# Altium schematic symbol library MCU_ST_STM32H5.SchLib: 73 symbols (part 3 of 3)
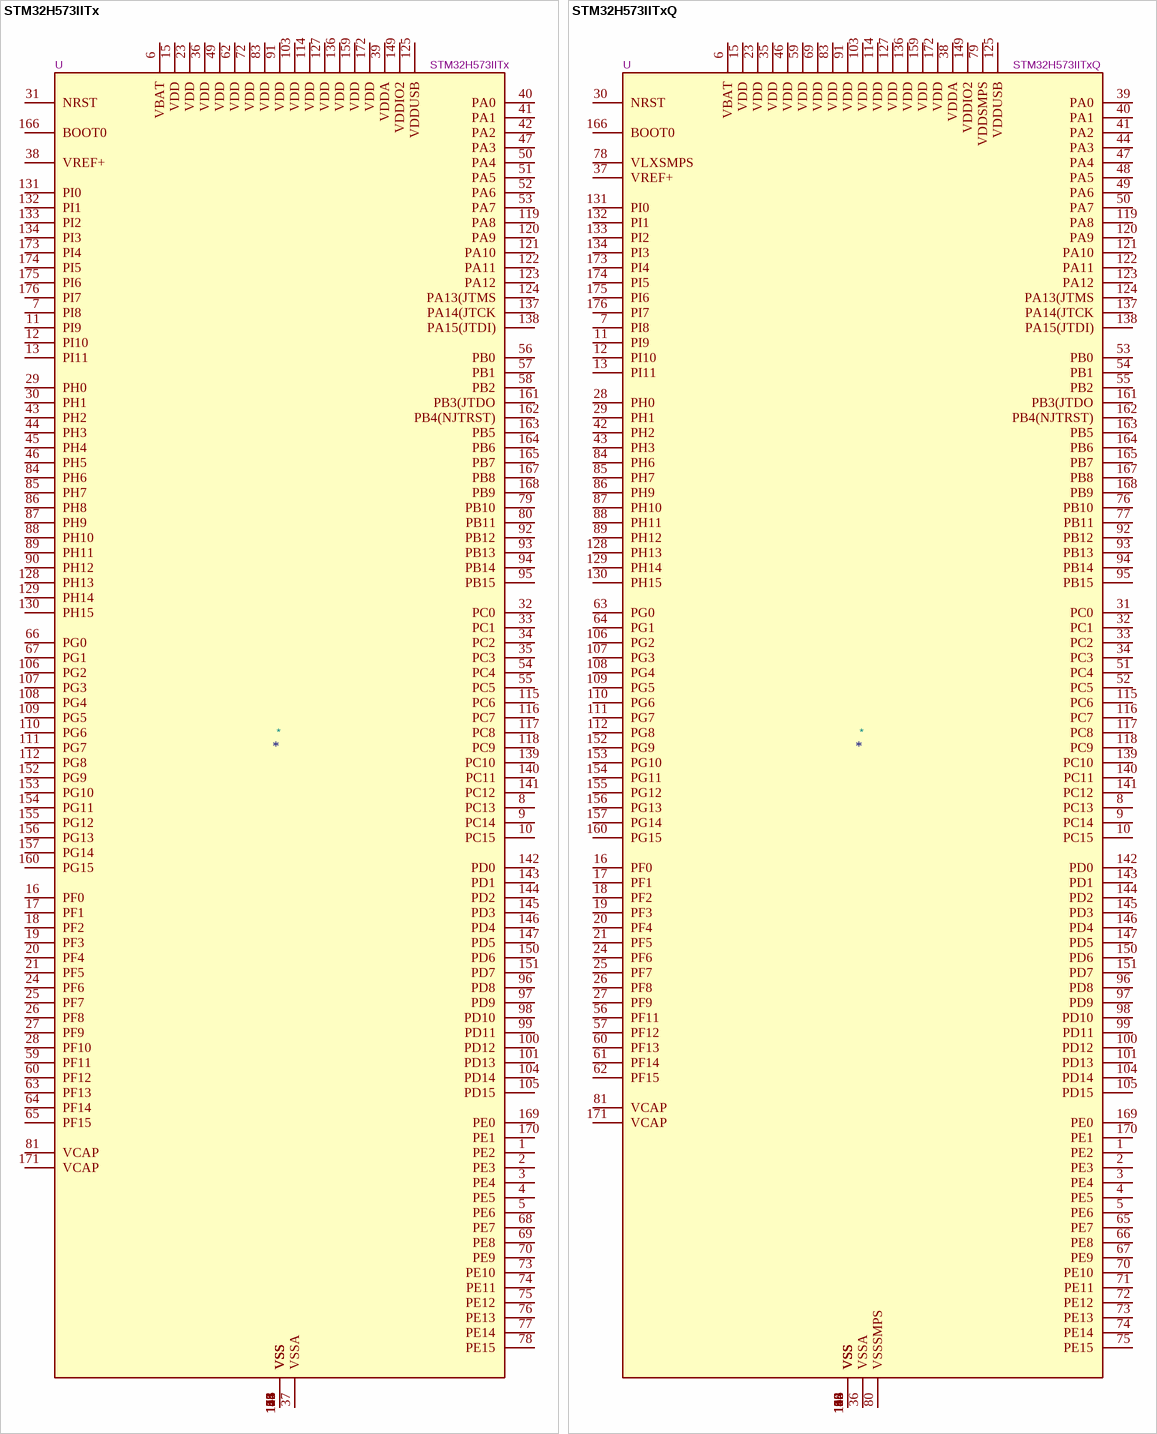
[diagram p23: symbols STM32H573IITx to STM32H573IITxQ]

## STM32H573IITx
designator *  value STM32H573IITx  Reference: U
STMicroelectronics Arm Cortex-M33 MCU, 2048KB flash, 640KB RAM, 250 MHz, 1.62-3.6V, 140 GPIO, LQFP176; ki_keywords: Arm Cortex-M33 STM32H5 STM32H563/H573; ki_fp_filters: LQFP*24x24mm*P0.5mm*; Footprint: Package_QFP:LQFP-176_24x24mm_P0.5mm; Datasheet: https://www.st.com/resource/en/datasheet/stm32h573ii.pdf; Description_: STMicroelectronics Arm Cortex-M33 MCU, 2048KB flash, 640KB RAM, 250 MHz, 1.62-3.6V, 140 GPIO, LQFP176
pins: 1 PE2, 2 PE3, 3 PE4, 4 PE5, 5 PE6, 6 VBAT, 7 PI8, 8 PC13, 9 PC14, 10 PC15, 11 PI9, 12 PI10, 13 PI11, 14 VSS, 15 VDD, 16 PF0, 17 PF1, 18 PF2, 19 PF3, 20 PF4, 21 PF5, 22 VSS, 23 VDD, 24 PF6, 25 PF7, 26 PF8, 27 PF9, 28 PF10, 29 PH0, 30 PH1, 31 NRST, 32 PC0, 33 PC1, 34 PC2, 35 PC3, 36 VDD, 37 VSSA, 38 VREF+, 39 VDDA, 40 PA0, 41 PA1, 42 PA2, 43 PH2, 44 PH3, 45 PH4, 46 PH5, 47 PA3, 48 VSS, 49 VDD, 50 PA4, 51 PA5, 52 PA6, 53 PA7, 54 PC4, 55 PC5, 56 PB0, 57 PB1, 58 PB2, 59 PF11, 60 PF12, 61 VSS, 62 VDD, 63 PF13, 64 PF14, 65 PF15, 66 PG0, 67 PG1, 68 PE7, 69 PE8, 70 PE9, 71 VSS, 72 VDD, 73 PE10, 74 PE11, 75 PE12, 76 PE13, 77 PE14, 78 PE15, 79 PB10, 80 PB11, 81 VCAP, 82 VSS, 83 VDD, 84 PH6, 85 PH7, 86 PH8, 87 PH9, 88 PH10, 89 PH11, 90 PH12, 91 VDD, 92 PB12, 93 PB13, 94 PB14, 95 PB15, 96 PD8, 97 PD9, 98 PD10, 99 PD11, 100 PD12, 101 PD13, 102 VSS, 103 VDD, 104 PD14, 105 PD15, 106 PG2, 107 PG3, 108 PG4, 109 PG5, 110 PG6, 111 PG7, 112 PG8, 113 VSS, 114 VDD, 115 PC6, 116 PC7, 117 PC8, 118 PC9, 119 PA8, 120 PA9, 121 PA10, 122 PA11, 123 PA12, 124 PA13(JTMS, 125 VDDUSB, 126 VSS, 127 VDD, 128 PH13, 129 PH14, 130 PH15, 131 PI0, 132 PI1, 133 PI2, 134 PI3, 135 VSS, 136 VDD, 137 PA14(JTCK, 138 PA15(JTDI), 139 PC10, 140 PC11, 141 PC12, 142 PD0, 143 PD1, 144 PD2, 145 PD3, 146 PD4, 147 PD5, 148 VSS, 149 VDDIO2, 150 PD6, 151 PD7, 152 PG9, 153 PG10, 154 PG11, 155 PG12, 156 PG13, 157 PG14, 158 VSS, 159 VDD, 160 PG15, 161 PB3(JTDO, 162 PB4(NJTRST), 163 PB5, 164 PB6, 165 PB7, 166 BOOT0, 167 PB8, 168 PB9, 169 PE0, 170 PE1, 171 VCAP, 172 VDD, 173 PI4, 174 PI5, 175 PI6, 176 PI7

## STM32H573IITxQ
designator *  value STM32H573IITxQ  Reference: U
STMicroelectronics Arm Cortex-M33 MCU, 2048KB flash, 640KB RAM, 250 MHz, 1.62-3.6V, 136 GPIO, LQFP176; ki_keywords: Arm Cortex-M33 STM32H5 STM32H563/H573; ki_fp_filters: LQFP*24x24mm*P0.5mm*; Footprint: Package_QFP:LQFP-176_24x24mm_P0.5mm; Datasheet: https://www.st.com/resource/en/datasheet/stm32h573ii.pdf; Description_: STMicroelectronics Arm Cortex-M33 MCU, 2048KB flash, 640KB RAM, 250 MHz, 1.62-3.6V, 136 GPIO, LQFP176
pins: 1 PE2, 2 PE3, 3 PE4, 4 PE5, 5 PE6, 6 VBAT, 7 PI8, 8 PC13, 9 PC14, 10 PC15, 11 PI9, 12 PI10, 13 PI11, 14 VSS, 15 VDD, 16 PF0, 17 PF1, 18 PF2, 19 PF3, 20 PF4, 21 PF5, 22 VSS, 23 VDD, 24 PF6, 25 PF7, 26 PF8, 27 PF9, 28 PH0, 29 PH1, 30 NRST, 31 PC0, 32 PC1, 33 PC2, 34 PC3, 35 VDD, 36 VSSA, 37 VREF+, 38 VDDA, 39 PA0, 40 PA1, 41 PA2, 42 PH2, 43 PH3, 44 PA3, 45 VSS, 46 VDD, 47 PA4, 48 PA5, 49 PA6, 50 PA7, 51 PC4, 52 PC5, 53 PB0, 54 PB1, 55 PB2, 56 PF11, 57 PF12, 58 VSS, 59 VDD, 60 PF13, 61 PF14, 62 PF15, 63 PG0, 64 PG1, 65 PE7, 66 PE8, 67 PE9, 68 VSS, 69 VDD, 70 PE10, 71 PE11, 72 PE12, 73 PE13, 74 PE14, 75 PE15, 76 PB10, 77 PB11, 78 VLXSMPS, 79 VDDSMPS, 80 VSSSMPS, 81 VCAP, 82 VSS, 83 VDD, 84 PH6, 85 PH7, 86 PH9, 87 PH10, 88 PH11, 89 PH12, 90 VSS, 91 VDD, 92 PB12, 93 PB13, 94 PB14, 95 PB15, 96 PD8, 97 PD9, 98 PD10, 99 PD11, 100 PD12, 101 PD13, 102 VSS, 103 VDD, 104 PD14, 105 PD15, 106 PG2, 107 PG3, 108 PG4, 109 PG5, 110 PG6, 111 PG7, 112 PG8, 113 VSS, 114 VDD, 115 PC6, 116 PC7, 117 PC8, 118 PC9, 119 PA8, 120 PA9, 121 PA10, 122 PA11, 123 PA12, 124 PA13(JTMS, 125 VDDUSB, 126 VSS, 127 VDD, 128 PH13, 129 PH14, 130 PH15, 131 PI0, 132 PI1, 133 PI2, 134 PI3, 135 VSS, 136 VDD, 137 PA14(JTCK, 138 PA15(JTDI), 139 PC10, 140 PC11, 141 PC12, 142 PD0, 143 PD1, 144 PD2, 145 PD3, 146 PD4, 147 PD5, 148 VSS, 149 VDDIO2, 150 PD6, 151 PD7, 152 PG9, 153 PG10, 154 PG11, 155 PG12, 156 PG13, 157 PG14, 158 VSS, 159 VDD, 160 PG15, 161 PB3(JTDO, 162 PB4(NJTRST), 163 PB5, 164 PB6, 165 PB7, 166 BOOT0, 167 PB8, 168 PB9, 169 PE0, 170 PE1, 171 VCAP, 172 VDD, 173 PI4, 174 PI5, 175 PI6, 176 PI7

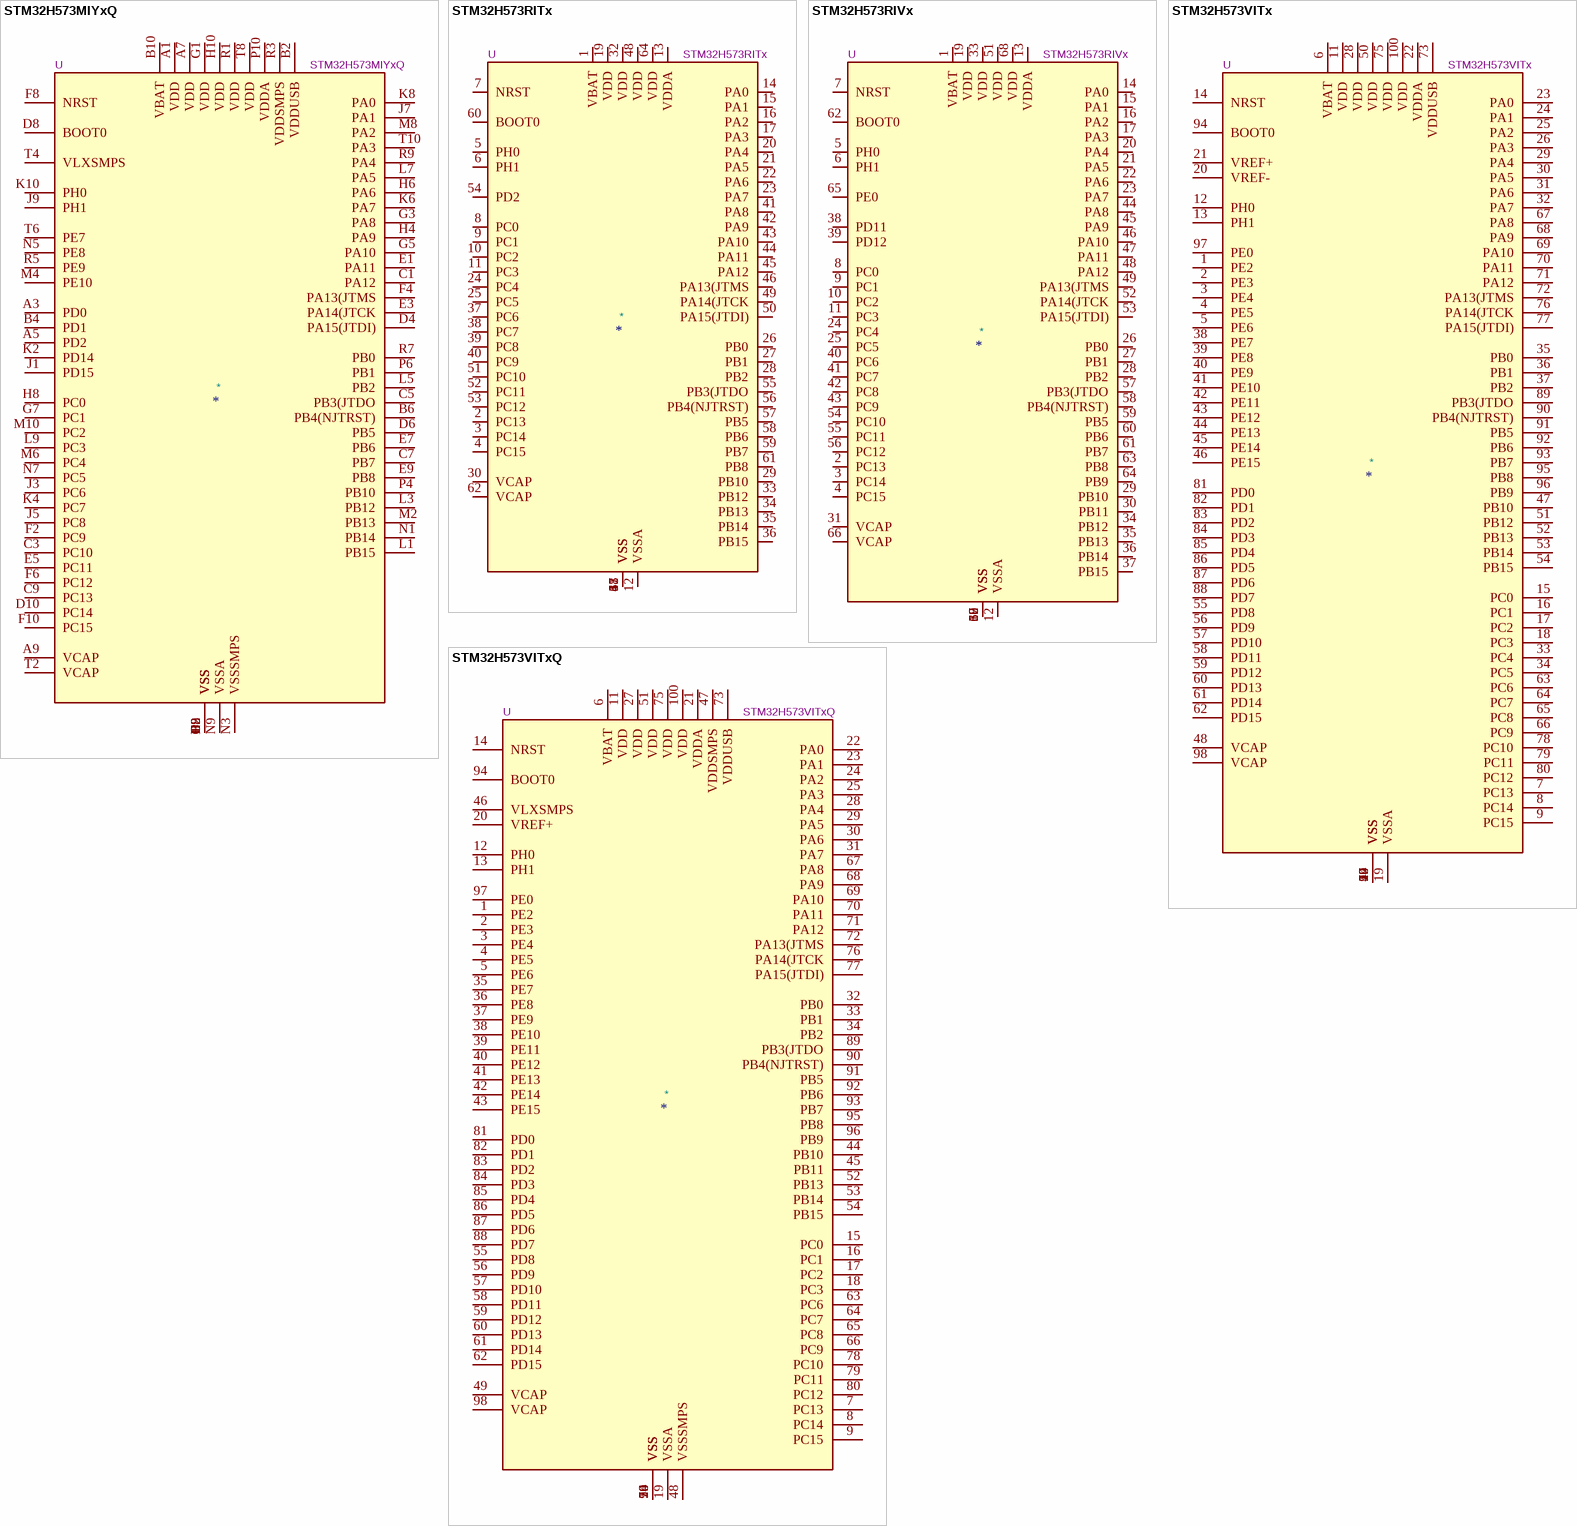
[diagram p20: symbols STM32H573MIYxQ to STM32H573VITxQ]

## STM32H573MIYxQ
designator *  value STM32H573MIYxQ  Reference: U
STMicroelectronics Arm Cortex-M33 MCU, 2048KB flash, 640KB RAM, 250 MHz, 1.62-3.6V, 57 GPIO, WLCSP80; ki_keywords: Arm Cortex-M33 STM32H5 STM32H563/H573; ki_fp_filters: ST*WLCSP*3.5x3.27mm*Layout10x16*P0.35mm*Stagger*Offcenter*; Footprint: Package_CSP:ST_WLCSP-80_3.5x3.27mm_Layout10x16_P0.35mm_Stagger_Offcenter; Datasheet: https://www.st.com/resource/en/datasheet/stm32h573mi.pdf; Description_: STMicroelectronics Arm Cortex-M33 MCU, 2048KB flash, 640KB RAM, 250 MHz, 1.62-3.6V, 57 GPIO, WLCSP80
pins: A1 VDD, A3 PD0, A5 PD2, A7 VDD, A9 VCAP, B2 VDDUSB, B4 PD1, B6 PB4(NJTRST), B8 VSS, B10 VBAT, C1 PA12, C3 PC10, C5 PB3(JTDO, C7 PB7, C9 PC13, D2 VSS, D4 PA15(JTDI), D6 PB5, D8 BOOT0, D10 PC14, E1 PA11, E3 PA14(JTCK, E5 PC11, E7 PB6, E9 PB8, F2 PC9, F4 PA13(JTMS, F6 PC12, F8 NRST, F10 PC15, G1 VDD, G3 PA8, G5 PA10, G7 PC1, G9 VSS, H2 VSS, H4 PA9, H6 PA6, H8 PC0, H10 VDD, J1 PD15, J3 PC6, J5 PC8, J7 PA1, J9 PH1, K2 PD14, K4 PC7, K6 PA7, K8 PA0, K10 PH0, L1 PB15, L3 PB12, L5 PB2, L7 PA5, L9 PC3, M2 PB13, M4 PE10, M6 PC4, M8 PA2, M10 PC2, N1 PB14, N3 VSSSMPS, N5 PE8, N7 PC5, N9 VSSA, P2 VSS, P4 PB10, P6 PB1, P8 VSS, P10 VDDA, R1 VDD, R3 VDDSMPS, R5 PE9, R7 PB0, R9 PA4, T2 VCAP, T4 VLXSMPS, T6 PE7, T8 VDD, T10 PA3

## STM32H573RITx
designator *  value STM32H573RITx  Reference: U
STMicroelectronics Arm Cortex-M33 MCU, 2048KB flash, 640KB RAM, 250 MHz, 1.62-3.6V, 49 GPIO, LQFP64; ki_keywords: Arm Cortex-M33 STM32H5 STM32H563/H573; ki_fp_filters: LQFP*10x10mm*P0.5mm*; Footprint: Package_QFP:LQFP-64_10x10mm_P0.5mm; Datasheet: https://www.st.com/resource/en/datasheet/stm32h573ri.pdf; Description_: STMicroelectronics Arm Cortex-M33 MCU, 2048KB flash, 640KB RAM, 250 MHz, 1.62-3.6V, 49 GPIO, LQFP64
pins: 1 VBAT, 2 PC13, 3 PC14, 4 PC15, 5 PH0, 6 PH1, 7 NRST, 8 PC0, 9 PC1, 10 PC2, 11 PC3, 12 VSSA, 13 VDDA, 14 PA0, 15 PA1, 16 PA2, 17 PA3, 18 VSS, 19 VDD, 20 PA4, 21 PA5, 22 PA6, 23 PA7, 24 PC4, 25 PC5, 26 PB0, 27 PB1, 28 PB2, 29 PB10, 30 VCAP, 31 VSS, 32 VDD, 33 PB12, 34 PB13, 35 PB14, 36 PB15, 37 PC6, 38 PC7, 39 PC8, 40 PC9, 41 PA8, 42 PA9, 43 PA10, 44 PA11, 45 PA12, 46 PA13(JTMS, 47 VSS, 48 VDD, 49 PA14(JTCK, 50 PA15(JTDI), 51 PC10, 52 PC11, 53 PC12, 54 PD2, 55 PB3(JTDO, 56 PB4(NJTRST), 57 PB5, 58 PB6, 59 PB7, 60 BOOT0, 61 PB8, 62 VCAP, 63 VSS, 64 VDD

## STM32H573RIVx
designator *  value STM32H573RIVx  Reference: U
STMicroelectronics Arm Cortex-M33 MCU, 2048KB flash, 640KB RAM, 250 MHz, 1.62-3.6V, 53 GPIO, VFQFPN68; ki_keywords: Arm Cortex-M33 STM32H5 STM32H563/H573; ki_fp_filters: QFN*1EP*8x8mm*P0.4mm*; Footprint: Package_DFN_QFN:QFN-68-1EP_8x8mm_P0.4mm_EP6.4x6.4mm; Datasheet: https://www.st.com/resource/en/datasheet/stm32h573ri.pdf; Description_: STMicroelectronics Arm Cortex-M33 MCU, 2048KB flash, 640KB RAM, 250 MHz, 1.62-3.6V, 53 GPIO, VFQFPN68
pins: 1 VBAT, 2 PC13, 3 PC14, 4 PC15, 5 PH0, 6 PH1, 7 NRST, 8 PC0, 9 PC1, 10 PC2, 11 PC3, 12 VSSA, 13 VDDA, 14 PA0, 15 PA1, 16 PA2, 17 PA3, 18 VSS, 19 VDD, 20 PA4, 21 PA5, 22 PA6, 23 PA7, 24 PC4, 25 PC5, 26 PB0, 27 PB1, 28 PB2, 29 PB10, 30 PB11, 31 VCAP, 32 VSS, 33 VDD, 34 PB12, 35 PB13, 36 PB14, 37 PB15, 38 PD11, 39 PD12, 40 PC6, 41 PC7, 42 PC8, 43 PC9, 44 PA8, 45 PA9, 46 PA10, 47 PA11, 48 PA12, 49 PA13(JTMS, 50 VSS, 51 VDD, 52 PA14(JTCK, 53 PA15(JTDI), 54 PC10, 55 PC11, 56 PC12, 57 PB3(JTDO, 58 PB4(NJTRST), 59 PB5, 60 PB6, 61 PB7, 62 BOOT0, 63 PB8, 64 PB9, 65 PE0, 66 VCAP, 67 VSS, 68 VDD, 69 VSS

## STM32H573VITx
designator *  value STM32H573VITx  Reference: U
STMicroelectronics Arm Cortex-M33 MCU, 2048KB flash, 640KB RAM, 250 MHz, 1.62-3.6V, 80 GPIO, LQFP100; ki_keywords: Arm Cortex-M33 STM32H5 STM32H563/H573; ki_fp_filters: LQFP*14x14mm*P0.5mm*; Footprint: Package_QFP:LQFP-100_14x14mm_P0.5mm; Datasheet: https://www.st.com/resource/en/datasheet/stm32h573vi.pdf; Description_: STMicroelectronics Arm Cortex-M33 MCU, 2048KB flash, 640KB RAM, 250 MHz, 1.62-3.6V, 80 GPIO, LQFP100
pins: 1 PE2, 2 PE3, 3 PE4, 4 PE5, 5 PE6, 6 VBAT, 7 PC13, 8 PC14, 9 PC15, 10 VSS, 11 VDD, 12 PH0, 13 PH1, 14 NRST, 15 PC0, 16 PC1, 17 PC2, 18 PC3, 19 VSSA, 20 VREF-, 21 VREF+, 22 VDDA, 23 PA0, 24 PA1, 25 PA2, 26 PA3, 27 VSS, 28 VDD, 29 PA4, 30 PA5, 31 PA6, 32 PA7, 33 PC4, 34 PC5, 35 PB0, 36 PB1, 37 PB2, 38 PE7, 39 PE8, 40 PE9, 41 PE10, 42 PE11, 43 PE12, 44 PE13, 45 PE14, 46 PE15, 47 PB10, 48 VCAP, 49 VSS, 50 VDD, 51 PB12, 52 PB13, 53 PB14, 54 PB15, 55 PD8, 56 PD9, 57 PD10, 58 PD11, 59 PD12, 60 PD13, 61 PD14, 62 PD15, 63 PC6, 64 PC7, 65 PC8, 66 PC9, 67 PA8, 68 PA9, 69 PA10, 70 PA11, 71 PA12, 72 PA13(JTMS, 73 VDDUSB, 74 VSS, 75 VDD, 76 PA14(JTCK, 77 PA15(JTDI), 78 PC10, 79 PC11, 80 PC12, 81 PD0, 82 PD1, 83 PD2, 84 PD3, 85 PD4, 86 PD5, 87 PD6, 88 PD7, 89 PB3(JTDO, 90 PB4(NJTRST), 91 PB5, 92 PB6, 93 PB7, 94 BOOT0, 95 PB8, 96 PB9, 97 PE0, 98 VCAP, 99 VSS, 100 VDD

## STM32H573VITxQ
designator *  value STM32H573VITxQ  Reference: U
STMicroelectronics Arm Cortex-M33 MCU, 2048KB flash, 640KB RAM, 250 MHz, 1.62-3.6V, 78 GPIO, LQFP100; ki_keywords: Arm Cortex-M33 STM32H5 STM32H563/H573; ki_fp_filters: LQFP*14x14mm*P0.5mm*; Footprint: Package_QFP:LQFP-100_14x14mm_P0.5mm; Datasheet: https://www.st.com/resource/en/datasheet/stm32h573vi.pdf; Description_: STMicroelectronics Arm Cortex-M33 MCU, 2048KB flash, 640KB RAM, 250 MHz, 1.62-3.6V, 78 GPIO, LQFP100
pins: 1 PE2, 2 PE3, 3 PE4, 4 PE5, 5 PE6, 6 VBAT, 7 PC13, 8 PC14, 9 PC15, 10 VSS, 11 VDD, 12 PH0, 13 PH1, 14 NRST, 15 PC0, 16 PC1, 17 PC2, 18 PC3, 19 VSSA, 20 VREF+, 21 VDDA, 22 PA0, 23 PA1, 24 PA2, 25 PA3, 26 VSS, 27 VDD, 28 PA4, 29 PA5, 30 PA6, 31 PA7, 32 PB0, 33 PB1, 34 PB2, 35 PE7, 36 PE8, 37 PE9, 38 PE10, 39 PE11, 40 PE12, 41 PE13, 42 PE14, 43 PE15, 44 PB10, 45 PB11, 46 VLXSMPS, 47 VDDSMPS, 48 VSSSMPS, 49 VCAP, 50 VSS, 51 VDD, 52 PB13, 53 PB14, 54 PB15, 55 PD8, 56 PD9, 57 PD10, 58 PD11, 59 PD12, 60 PD13, 61 PD14, 62 PD15, 63 PC6, 64 PC7, 65 PC8, 66 PC9, 67 PA8, 68 PA9, 69 PA10, 70 PA11, 71 PA12, 72 PA13(JTMS, 73 VDDUSB, 74 VSS, 75 VDD, 76 PA14(JTCK, 77 PA15(JTDI), 78 PC10, 79 PC11, 80 PC12, 81 PD0, 82 PD1, 83 PD2, 84 PD3, 85 PD4, 86 PD5, 87 PD6, 88 PD7, 89 PB3(JTDO, 90 PB4(NJTRST), 91 PB5, 92 PB6, 93 PB7, 94 BOOT0, 95 PB8, 96 PB9, 97 PE0, 98 VCAP, 99 VSS, 100 VDD

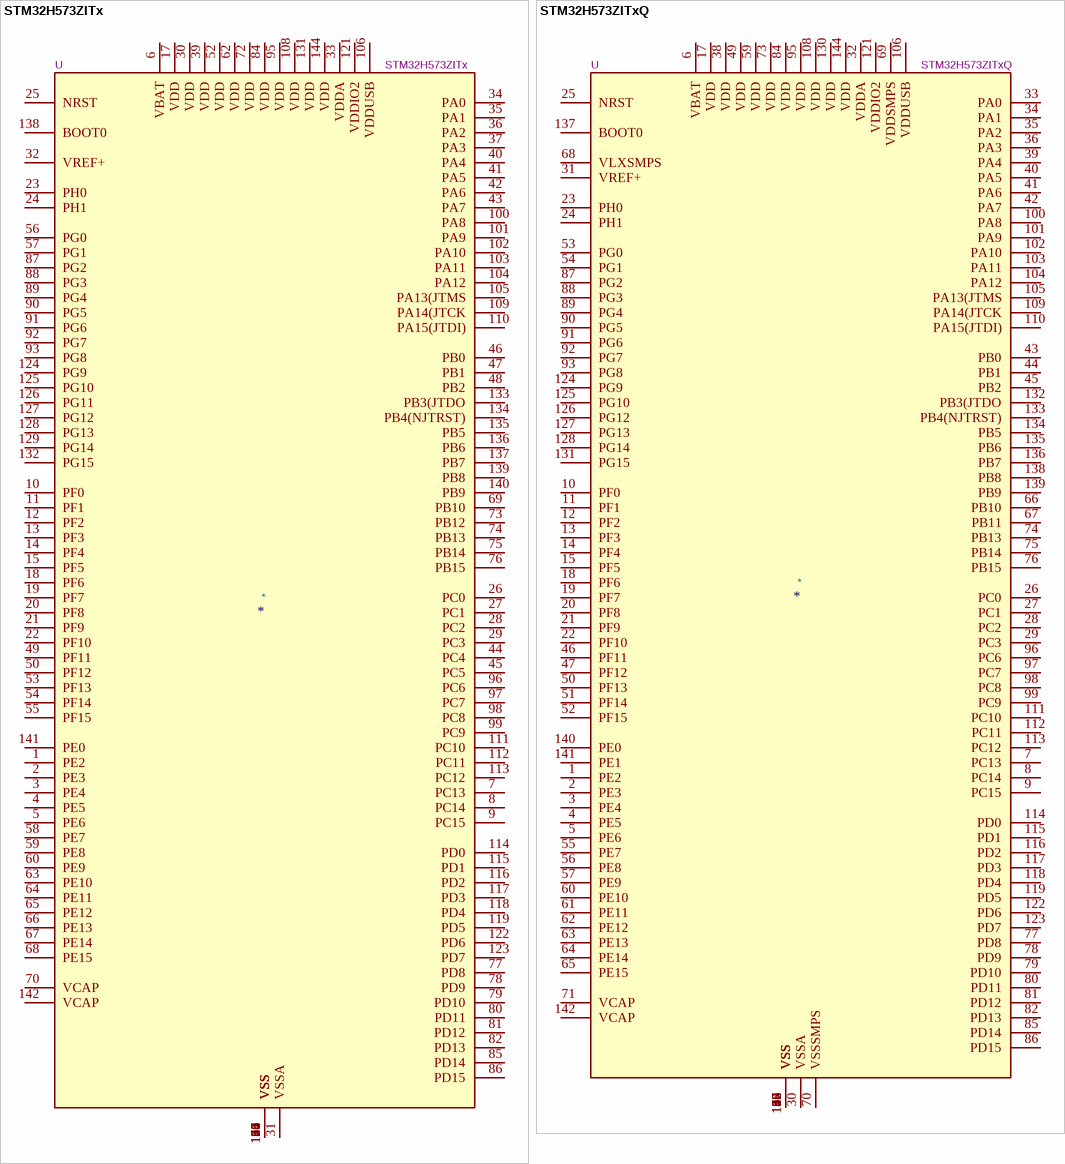
[diagram p21: symbols STM32H573ZITx to STM32H573ZITxQ]

## STM32H573ZITx
designator *  value STM32H573ZITx  Reference: U
STMicroelectronics Arm Cortex-M33 MCU, 2048KB flash, 640KB RAM, 250 MHz, 1.62-3.6V, 112 GPIO, LQFP144; ki_keywords: Arm Cortex-M33 STM32H5 STM32H563/H573; ki_fp_filters: LQFP*20x20mm*P0.5mm*; Footprint: Package_QFP:LQFP-144_20x20mm_P0.5mm; Datasheet: https://www.st.com/resource/en/datasheet/stm32h573zi.pdf; Description_: STMicroelectronics Arm Cortex-M33 MCU, 2048KB flash, 640KB RAM, 250 MHz, 1.62-3.6V, 112 GPIO, LQFP144
pins: 1 PE2, 2 PE3, 3 PE4, 4 PE5, 5 PE6, 6 VBAT, 7 PC13, 8 PC14, 9 PC15, 10 PF0, 11 PF1, 12 PF2, 13 PF3, 14 PF4, 15 PF5, 16 VSS, 17 VDD, 18 PF6, 19 PF7, 20 PF8, 21 PF9, 22 PF10, 23 PH0, 24 PH1, 25 NRST, 26 PC0, 27 PC1, 28 PC2, 29 PC3, 30 VDD, 31 VSSA, 32 VREF+, 33 VDDA, 34 PA0, 35 PA1, 36 PA2, 37 PA3, 38 VSS, 39 VDD, 40 PA4, 41 PA5, 42 PA6, 43 PA7, 44 PC4, 45 PC5, 46 PB0, 47 PB1, 48 PB2, 49 PF11, 50 PF12, 51 VSS, 52 VDD, 53 PF13, 54 PF14, 55 PF15, 56 PG0, 57 PG1, 58 PE7, 59 PE8, 60 PE9, 61 VSS, 62 VDD, 63 PE10, 64 PE11, 65 PE12, 66 PE13, 67 PE14, 68 PE15, 69 PB10, 70 VCAP, 71 VSS, 72 VDD, 73 PB12, 74 PB13, 75 PB14, 76 PB15, 77 PD8, 78 PD9, 79 PD10, 80 PD11, 81 PD12, 82 PD13, 83 VSS, 84 VDD, 85 PD14, 86 PD15, 87 PG2, 88 PG3, 89 PG4, 90 PG5, 91 PG6, 92 PG7, 93 PG8, 94 VSS, 95 VDD, 96 PC6, 97 PC7, 98 PC8, 99 PC9, 100 PA8, 101 PA9, 102 PA10, 103 PA11, 104 PA12, 105 PA13(JTMS, 106 VDDUSB, 107 VSS, 108 VDD, 109 PA14(JTCK, 110 PA15(JTDI), 111 PC10, 112 PC11, 113 PC12, 114 PD0, 115 PD1, 116 PD2, 117 PD3, 118 PD4, 119 PD5, 120 VSS, 121 VDDIO2, 122 PD6, 123 PD7, 124 PG9, 125 PG10, 126 PG11, 127 PG12, 128 PG13, 129 PG14, 130 VSS, 131 VDD, 132 PG15, 133 PB3(JTDO, 134 PB4(NJTRST), 135 PB5, 136 PB6, 137 PB7, 138 BOOT0, 139 PB8, 140 PB9, 141 PE0, 142 VCAP, 143 VSS, 144 VDD

## STM32H573ZITxQ
designator *  value STM32H573ZITxQ  Reference: U
STMicroelectronics Arm Cortex-M33 MCU, 2048KB flash, 640KB RAM, 250 MHz, 1.62-3.6V, 110 GPIO, LQFP144; ki_keywords: Arm Cortex-M33 STM32H5 STM32H563/H573; ki_fp_filters: LQFP*20x20mm*P0.5mm*; Footprint: Package_QFP:LQFP-144_20x20mm_P0.5mm; Datasheet: https://www.st.com/resource/en/datasheet/stm32h573zi.pdf; Description_: STMicroelectronics Arm Cortex-M33 MCU, 2048KB flash, 640KB RAM, 250 MHz, 1.62-3.6V, 110 GPIO, LQFP144
pins: 1 PE2, 2 PE3, 3 PE4, 4 PE5, 5 PE6, 6 VBAT, 7 PC13, 8 PC14, 9 PC15, 10 PF0, 11 PF1, 12 PF2, 13 PF3, 14 PF4, 15 PF5, 16 VSS, 17 VDD, 18 PF6, 19 PF7, 20 PF8, 21 PF9, 22 PF10, 23 PH0, 24 PH1, 25 NRST, 26 PC0, 27 PC1, 28 PC2, 29 PC3, 30 VSSA, 31 VREF+, 32 VDDA, 33 PA0, 34 PA1, 35 PA2, 36 PA3, 37 VSS, 38 VDD, 39 PA4, 40 PA5, 41 PA6, 42 PA7, 43 PB0, 44 PB1, 45 PB2, 46 PF11, 47 PF12, 48 VSS, 49 VDD, 50 PF13, 51 PF14, 52 PF15, 53 PG0, 54 PG1, 55 PE7, 56 PE8, 57 PE9, 58 VSS, 59 VDD, 60 PE10, 61 PE11, 62 PE12, 63 PE13, 64 PE14, 65 PE15, 66 PB10, 67 PB11, 68 VLXSMPS, 69 VDDSMPS, 70 VSSSMPS, 71 VCAP, 72 VSS, 73 VDD, 74 PB13, 75 PB14, 76 PB15, 77 PD8, 78 PD9, 79 PD10, 80 PD11, 81 PD12, 82 PD13, 83 VSS, 84 VDD, 85 PD14, 86 PD15, 87 PG2, 88 PG3, 89 PG4, 90 PG5, 91 PG6, 92 PG7, 93 PG8, 94 VSS, 95 VDD, 96 PC6, 97 PC7, 98 PC8, 99 PC9, 100 PA8, 101 PA9, 102 PA10, 103 PA11, 104 PA12, 105 PA13(JTMS, 106 VDDUSB, 107 VSS, 108 VDD, 109 PA14(JTCK, 110 PA15(JTDI), 111 PC10, 112 PC11, 113 PC12, 114 PD0, 115 PD1, 116 PD2, 117 PD3, 118 PD4, 119 PD5, 120 VSS, 121 VDDIO2, 122 PD6, 123 PD7, 124 PG9, 125 PG10, 126 PG12, 127 PG13, 128 PG14, 129 VSS, 130 VDD, 131 PG15, 132 PB3(JTDO, 133 PB4(NJTRST), 134 PB5, 135 PB6, 136 PB7, 137 BOOT0, 138 PB8, 139 PB9, 140 PE0, 141 PE1, 142 VCAP, 143 VSS, 144 VDD